# EAGLE library part 74LVC1G97GW (library SPCoast)
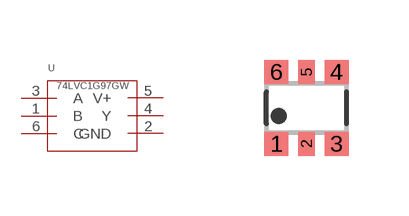
[diagram p87: symbol with the pads of SOT363; footprint SOT363]

Designator prefix U

## 74LVC1G97GW  [SOT363]
1  B  in
2  GND  pwr
3  A  in
4  Y  out
5  V+  pwr
6  C  in

## Footprint SOT363 (pad centres in mm)
smd 0.6 x 0.6: 1 -0.75,-0.9; 3 0.75,-0.9; 4 0.75,0.9; 6 -0.75,0.9
smd 0.4 x 0.6: 2 0,-0.9; 5 0,0.9